# Altium footprint library DZ_LIB.PcbLib: 61 footprints (part 2 of 4)
Each footprint in its own frame and in the unit in brackets; x right, y up, seen from the top. Pads: shape width x height; smd on the part's side, far side on the other; paste and mask are expansions set on the pad; w line width, h text height; cw(c..) or ccw(c..) is an arc to the next point about the centre after c.
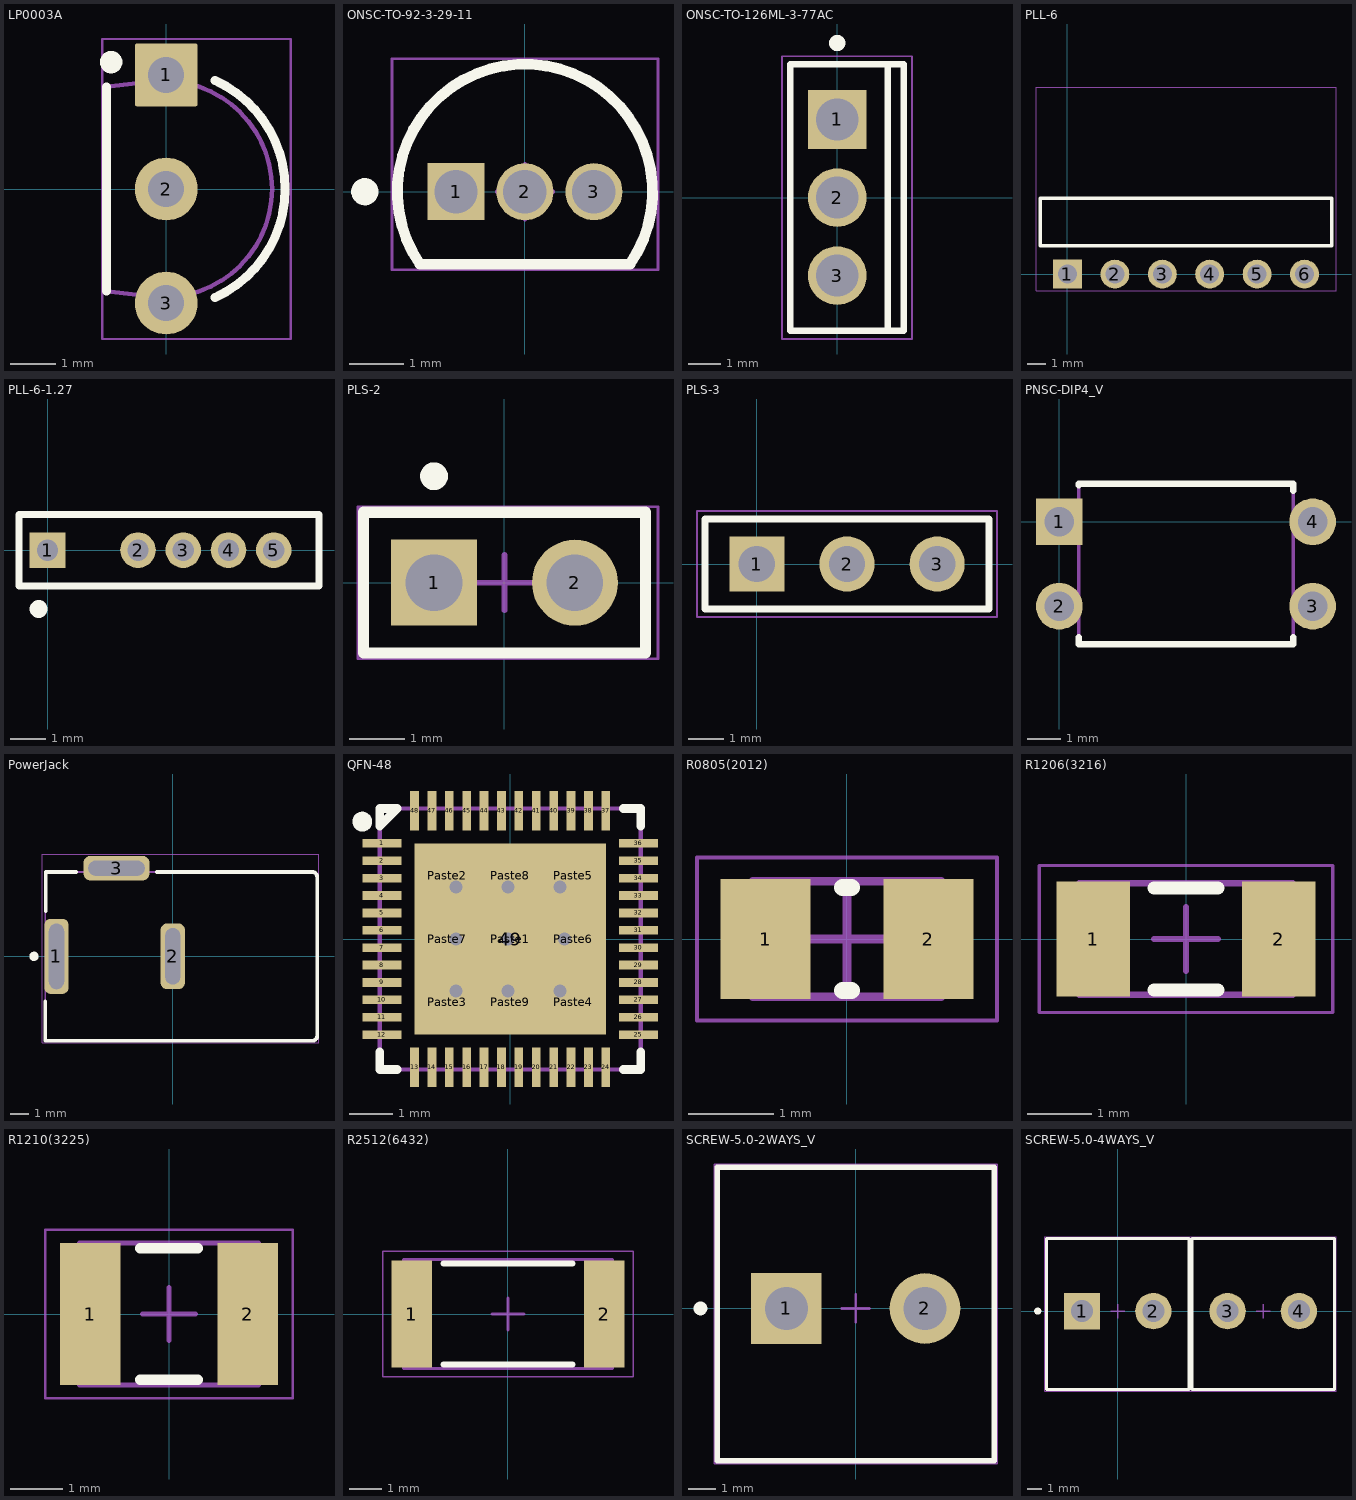
[diagram p1: the footprints below, top view; thin cyan lines are the x and y axes]

## LP0003A [mm] "TO, Flat Index; 3 In-Line, Formed Axial Leads; Body Dia. 4.8mm; Leads 0.56 x 0.41 mm (max)"
height 9.33
pads (3):
  rrect7% 1.4x1.4 hole 0.8: 1(0,2.54)
  round 1.4 hole 0.8: 2(0,0) 3(0,-2.54)
Top Overlay:
  circle w0.25: c-1.225,2.825 r0.125
  lines w0.2: -1.325,-2.273 -1.325,2.273 ; 1.092,-2.415 ccw(c0,0) 1.092,2.415
Mechanical 1:
  text ".Designator" at -1.009,-0.429 h0.76
Mechanical 13:
  lines w0.1: 0.195,-2.4 0.195,-2.722 0.195,-2.83 -0.185,-2.83 -0.185,-2.722 -0.185,-2.412 ; 0.195,2.4 0.195,2.722 0.195,2.83 -0.185,2.83 -0.185,2.722 -0.185,2.412 ; -0.185,-2.412 -0.055,-2.412 ccw(c-0.055,0) -0.055,2.412 -0.185,2.412 ; -0.185,-2.412 -1.325,-2.273 -1.325,2.273 -0.185,2.412
Mechanical 15:
  lines w0.05: -1.425,-3.34 2.775,-3.34 2.775,3.34 -1.425,3.34 -1.425,-3.34
  lines w0.1: -0.5,0 0.5,0 ; 0,-0.5 0,0.5
3D body "LP0003B.stp": height 9.01, standoff -8.51, extent -1.333,-2.83 2.349,2.83

## ONSC-TO-92-3-29-11 [mm] "TO, 3-Leads, Body Dia 4.7mm, Pitch 1.27mm"
height 7.87
pads (3):
  rect 1.05x1.05 hole 0.8: 1(-1.27,0)
  round 1.05 hole 0.8: 2(0,0) 3(1.27,0)
Top Overlay:
  circle w0.25: c-2.95,0 r0.125
  lines w0.2: -1.934,-1.335 cw(c0,0) 1.934,-1.335 -1.934,-1.335
Mechanical 13:
  lines w0.1: -1.934,-1.335 cw(c0,0) 1.934,-1.335 -1.934,-1.335
Mechanical 15:
  lines w0.05: -2.45,-1.435 2.45,-1.435 2.45,2.45 -2.45,2.45 -2.45,-1.435
  lines w0.1: -0.5,0 0.5,0 ; 0,-0.5 0,0.5
3D body: height 7.87, standoff 2.54, extent -2.349,-1.334 2.357,2.359

## ONSC-TO-126ML-3-77AC [mm] "FM, 3-Leads, Body 8.2x3.5mm, Pitch 2.4mm"
height 12.5
pads (3):
  rect 1.8x1.8 hole 1.3: 1(0,2.4)
  round 1.8 hole 1.3: 2(0,0) 3(0,-2.4)
Top Overlay:
  circle w0.25: c0,4.75 r0.125
  lines w0.2: 1.55,-4.1 1.55,4.1 ; -1.45,-4.1 -1.45,4.1 2.05,4.1 2.05,-4.1 -1.45,-4.1
Mechanical 13:
  lines w0.1: 2.05,-4.1 2.05,4.1 ; 2.05,-4.1 -1.45,-4.1 -1.45,4.1 2.05,4.1 ; 2.05,-4.1 2.05,4.1
Mechanical 15:
  lines w0.05: -1.7,-4.35 2.3,-4.35 2.3,4.35 -1.7,4.35 -1.7,-4.35
  lines w0.1: -0.5,0 0.5,0 ; 0,-0.5 0,0.5
3D body: height 13.1, standoff 13.1, extent 2.05,-4 2.05,4
3D body: height 12.5, standoff 1.2, extent -1.45,-4.1 2.05,4.1
3D body: height 0, standoff -1.6, extent -0.35,-2.8 0.35,-2
3D body: height 1.2, standoff 0, extent -0.35,-3.2 0.35,-1.6
3D body: height 0, standoff -1.6, extent -0.35,-0.4 0.35,0.4
3D body: height 1.2, standoff 0, extent -0.35,-0.8 0.35,0.8
3D body: height 0, standoff -1.6, extent -0.35,2 0.35,2.8
3D body: height 1.2, standoff 0, extent -0.35,1.6 0.35,3.2

## PLL-6 [mm] ".025 SQ Post Terminal Strip Assembly, 1x6 Pins, Right Angle, 2.54mm Pitch, Male"
height 3.02
pads (6):
  rect 1.55x1.55 hole 1.02: 1(0,0)
  round 1.55 hole 1.02: 2(2.54,0) 3(5.08,0) 4(7.62,0) 5(10.16,0) 6(12.7,0)
Top Overlay:
  lines w0.2: -1.46,1.52 -1.46,4.06 14.16,4.06 14.16,1.52 -1.46,1.52
Mechanical 13:
  lines w0.1: -1.46,1.52 -1.46,4.06 14.16,4.06 14.16,1.52 -1.46,1.52
Mechanical 15:
  lines w0.05: -1.685,-0.9 -1.685,10.025 14.385,10.025 14.385,-0.9 -1.685,-0.9
3D body "TSW-106-08-X-S-RA.step": height 3.05, standoff -2.29, extent -1.27,-0.323 13.97,9.9

## PLL-6-1.27 [mm] "Male Header, Pitch 1.27mm, 1x6"
height 4.3
pads (5):
  rect 1x1 hole 0.6: 1(0,0)
  round 1 hole 0.6: 2(2.54,0) 3(3.81,0) 4(5.08,0) 5(6.35,0)
Top Overlay:
  circle w0.25: c-0.252,-1.65 r0.125
  lines w0.2: -0.8,-1 -0.8,1 7.62,1 7.62,-1 -0.8,-1

## PLS-2 [mm] "Header, 2-Leads, Body 5.08x2.54mm, Pitch 2.54mm"
height 8.38
pads (2):
  rect 1.55x1.55 hole 1.02: 1(-1.27,0)
  round 1.55 hole 1.02: 2(1.27,0)
Top Overlay:
  circle w0.25: c-1.27,1.92 r0.125
  lines w0.2: -2.54,-1.27 2.54,-1.27 2.54,1.27 -2.54,1.27 -2.54,-1.27
Mechanical 13:
  lines w0.1: -2.54,-1.27 2.54,-1.27 2.54,1.27 -2.54,1.27 -2.54,-1.27
Mechanical 15:
  lines w0.05: -2.64,-1.37 -2.64,1.37 2.767,1.37 2.767,-1.37 -2.64,-1.37
  lines w0.1: -0.5,0 0.5,0 ; 0,-0.5 0,0.5
3D body "TSW-102-07-S-S.stp": height 8.38, standoff -2.54, extent -2.54,-1.27 2.667,1.27

## PLS-3 [mm] ".025 SQ Post Terminal Strip Assembly, 1x3 Pins, Vertical, 2.54mm Pitch, Male"
height 8.58
pads (3):
  rect 1.55x1.55 hole 1.02: 1(0,0)
  round 1.55 hole 1.02: 2(2.54,0) 3(5.08,0)
Top Overlay:
  lines w0.2: -1.46,-1.27 6.54,-1.27 6.54,1.27 -1.46,1.27 -1.46,-1.27
Mechanical 13:
  lines w0.1: -1.46,-1.27 6.54,-1.27 6.54,1.27 -1.46,1.27 -1.46,-1.27
Mechanical 15:
  lines w0.05: -1.685,-1.495 6.765,-1.495 6.765,1.495 -1.685,1.495 -1.685,-1.495
3D body "TSW-103-07-X-S.step": height 8.38, standoff -2.54, extent -1.27,-1.27 6.35,1.27

## PNSC-DIP4_V [mm] "DIP, 4-Leads, Body 6.45x4.83mm, Pitch2.54 mm"
height 3.4
pads (4):
  rect 1.4x1.4 hole 0.9 mask+0.102: 1(0,0)
  round 1.4 hole 0.9 mask+0.102: 2(0,-2.54) 3(7.62,-2.54) 4(7.62,0)
Top Overlay:
  lines w0.2: 0.585,-3.472 0.585,-3.685 7.035,-3.685 7.035,-3.472 ; 0.585,1.1 0.585,1.145 7.035,1.145 7.035,0.932
Mechanical 13:
  lines w0.1: 0.585,-3.685 0.585,1.145 7.035,1.145 7.035,-3.685 0.585,-3.685
3D body: height 3.4, standoff 0.2, extent 0.585,-3.685 7.035,1.145

## PowerJack [mm] "Power Jack, 3-Leads, Body 14.5x9mm"
height 11.1
pads (3):
  rrect50% 1.3x4 hole 0.8 slot 3.5 at 90 deg: 1(-6.2,0)
  rrect50% 1.3x3.5 hole 0.8 slot 3 at 90 deg: 2(0,0)
  rrect50% 3.5x1.3 hole 0.8 slot 3 at 0 deg: 3(-3,4.7)
Top Overlay:
  circle w0.25: c-7.4,0 r0.125
  lines w0.2: -6.8,-4.5 -6.8,-2.4 ; -6.78,-4.5 7.45,-4.5 ccw(c7.45,-4.25) 7.7,-4.25 7.7,4.25 ccw(c7.45,4.25) 7.45,4.5 -0.85,4.5 ; -6.78,2.4 -6.78,4.5 -5.15,4.5
Mechanical 13:
  lines w0.1: -6.8,-4.5 7.45,-4.5 ccw(c7.45,-4.25) 7.7,-4.25 7.7,4.25 ccw(c7.45,4.25) 7.45,4.5 -6.8,4.5 -6.8,-4.5
Mechanical 15:
  lines w0.05: -6.95,-4.6 -6.95,5.45 7.8,5.45 7.8,-4.6 -6.95,-4.6
  lines w0.1: -0.5,0 0.5,0 ; 0,-0.5 0,0.5
3D body "KLDX-0202-A_rD2.STEP": height 10.8, standoff -4.1, extent -6.8,-4.5 7.7,4.9

## QFN-48 [mm] "48 Pin QFN"
pads (58):
  rect 0.9x0.2 smd mask+0.05: 1(-2.95,2.2) 2(-2.95,1.8) 3(-2.95,1.4) 4(-2.95,1) 5(-2.95,0.6) 6(-2.95,0.2) 7(-2.95,-0.2) 8(-2.95,-0.6) 9(-2.95,-1) 10(-2.95,-1.4) 11(-2.95,-1.8) 12(-2.95,-2.2) 25(2.95,-2.2) 26(2.95,-1.8) 27(2.95,-1.4) 28(2.95,-1) 29(2.95,-0.6) 30(2.95,-0.2) 31(2.95,0.2) 32(2.95,0.6) 33(2.95,1) 34(2.95,1.4) 35(2.95,1.8) 36(2.95,2.2)
  rect 0.2x0.9 smd mask+0.05: 13(-2.2,-2.95) 14(-1.8,-2.95) 15(-1.4,-2.95) 16(-1,-2.95) 17(-0.6,-2.95) 18(-0.2,-2.95) 19(0.2,-2.95) 20(0.6,-2.95) 21(1,-2.95) 22(1.4,-2.95) 23(1.8,-2.95) 24(2.2,-2.95) 37(2.2,2.95) 38(1.8,2.95) 39(1.4,2.95) 40(1,2.95) 41(0.6,2.95) 42(0.2,2.95) 43(-0.2,2.95) 44(-0.6,2.95) 45(-1,2.95) 46(-1.4,2.95) 47(-1.8,2.95) 48(-2.2,2.95)
  rect 4.4x4.4 smd paste-4.4 mask+0.05: 49(0,0)
  rect 1.3x1.3 on Top Paste mask+0.05: Paste1(0,0) Paste2(-1.45,1.45) Paste3(-1.45,-1.45) Paste4(1.45,-1.45) Paste5(1.45,1.45) Paste6(1.45,0) Paste7(-1.45,0) Paste8(0,1.45) Paste9(0,-1.45)
via -0.05,1.2 diameter 0.6 hole 0.3
via -0.05,0 diameter 0.6 hole 0.3
via 1.25,0 diameter 0.6 hole 0.3
via -1.25,0 diameter 0.6 hole 0.3
via -1.25,-1.2 diameter 0.6 hole 0.3
via -0.05,-1.2 diameter 0.6 hole 0.3
via 1.15,-1.2 diameter 0.6 hole 0.3
via -1.25,1.2 diameter 0.6 hole 0.3
via 1.15,1.2 diameter 0.6 hole 0.3
Top Overlay:
  circle w0.254: c-3.4,2.7 r0.1
  lines w0.2: -3,-2.6 -3,-3 -2.6,-3 ; 2.6,-3 3,-3 3,-2.6 ; 2.6,3 3,3 3,2.6 ; -3,2.6 -3,3 -2.6,3 -3,2.6
Mechanical 13:
  lines w0.1: -3,-3 -3,3 3,3 3,-3 -3,-3
3D body: height 1, standoff 0, extent -3,-3 3,3

## R0805(2012) [mm] "Chip Resistor, Body 2.0x1.3mm, IPC Medium Density"
height 0.7
pads (2):
  rect 1.05x1.4 smd: 1(-0.95,0) 2(0.95,0)
Top Overlay:
  lines w0.2: -0.05,-0.6 0.05,-0.6 ; -0.05,0.6 0.05,0.6
Mechanical 13:
  lines w0.1: -1.1,-0.675 1.1,-0.675 1.1,0.675 -1.1,0.675 -1.1,-0.675
Mechanical 15:
  lines w0.05: -1.75,-0.95 1.75,-0.95 1.75,0.95 -1.75,0.95 -1.75,-0.95
  lines w0.1: -0.5,0 0.5,0 ; 0,-0.5 0,0.5
3D body: height 0.7, standoff 0, extent -1.1,-0.675 -0.68,0.675
3D body: height 0.7, standoff 0, extent -0.68,-0.675 0.68,0.675
3D body: height 0.7, standoff 0, extent 0.68,-0.675 1.1,0.675

## R1206(3216) [mm] "Chip Resistor, Body 3.2x1.6mm, IPC Medium Density"
height 0.75
pads (2):
  rect 1.15x1.8 smd: 1(-1.45,0) 2(1.45,0)
Top Overlay:
  lines w0.2: -0.5,-0.8 0.5,-0.8 ; -0.5,0.8 0.5,0.8
Mechanical 13:
  lines w0.1: -1.675,-0.875 1.675,-0.875 1.675,0.875 -1.675,0.875 -1.675,-0.875
Mechanical 15:
  lines w0.05: -2.3,-1.15 2.3,-1.15 2.3,1.15 -2.3,1.15 -2.3,-1.15
  lines w0.1: -0.5,0 0.5,0 ; 0,-0.5 0,0.5
3D body: height 0.75, standoff 0, extent 1.181,-0.874 1.675,0.875
3D body: height 0.75, standoff 0, extent -1.18,-0.874 1.181,0.875
3D body: height 0.75, standoff 0, extent -1.674,-0.874 -1.18,0.875

## R1210(3225) [mm] "Chip Resistor, Body 3.2x2.5mm, IPC Medium Density"
height 0.71
pads (2):
  rect 1.15x2.7 smd: 1(-1.5,0) 2(1.5,0)
Top Overlay:
  lines w0.2: -0.55,-1.25 0.55,-1.25 ; -0.55,1.25 0.55,1.25
Mechanical 13:
  lines w0.1: -1.7,-1.35 -1.7,1.35 1.7,1.35 1.7,-1.35 -1.7,-1.35
Mechanical 15:
  lines w0.05: -2.35,-1.6 -2.35,1.6 2.35,1.6 2.35,-1.6 -2.35,-1.6
  lines w0.1: -0.5,0 0.5,0 ; 0,-0.5 0,0.5
3D body: height 0.71, standoff 0, extent -1.182,-1.35 1.182,1.35
3D body: height 0.71, standoff 0, extent -1.698,-1.349 -1.178,1.351
3D body: height 0.71, standoff 0, extent 1.179,-1.351 1.698,1.349

## R2512(6432) [mm] "Chip Resistor, Body 6.4x3.2mm, IPC Medium Density"
height 0.75
pads (2):
  rect 1.25x3.35 smd: 1(-3,0) 2(3,0)
Top Overlay:
  lines w0.2: -2,-1.575 2,-1.575 ; -2,1.575 2,1.575
Mechanical 13:
  lines w0.1: -3.25,-1.7 3.25,-1.7 3.25,1.7 -3.25,1.7 -3.25,-1.7
Mechanical 15:
  lines w0.05: -3.9,-1.95 3.9,-1.95 3.9,1.95 -3.9,1.95 -3.9,-1.95
  lines w0.1: -0.5,0 0.5,0 ; 0,-0.5 0,0.5
3D body: height 0.75, standoff 0, extent -3.25,-1.7 -2.63,1.7
3D body: height 0.75, standoff 0, extent -2.63,-1.7 2.63,1.7
3D body: height 0.75, standoff 0, extent 2.63,-1.7 3.25,1.7

## SCREW-5.0-2WAYS_V [mm] "Socket, Screw Terminal Block, 2-Leads, Pitch 5mm, 90 Degree Angle, Through-Hole"
height 18.2
pads (2):
  rect 2.55x2.55 hole 1.55: 1(-2.5,0)
  round 2.55 hole 1.55: 2(2.5,0)
Top Overlay:
  circle w0.25: c-5.6,0 r0.125
  lines w0.2: -5,-5.5 -5,5.1 5,5.1 5,-5.5 -5,-5.5
Mechanical 13:
  lines w0.1: -5,-5.5 5,-5.5 5,5.1 -5,5.1 -5,-5.5
Mechanical 15:
  lines w0.05: -5.1,-5.6 -5.1,5.2 5.1,5.2 5.1,-5.6 -5.1,-5.6
  lines w0.1: -0.5,0 0.5,0 ; 0,-0.5 0,0.5
3D body: height 17.7, standoff 17.2, extent 0.754,0.246 2.254,1.746
3D body: height 17.7, standoff 17.2, extent 2.746,0.246 4.246,1.746
3D body: height 17.7, standoff 17.2, extent 0.754,-1.746 2.254,-0.246
3D body: height 17.7, standoff 17.2, extent 2.746,-1.746 4.246,-0.246
3D body: height 17.7, standoff 17.2, extent -4.246,0.246 -2.746,1.746
3D body: height 17.7, standoff 17.2, extent -2.254,0.246 -0.754,1.746
3D body: height 17.7, standoff 17.2, extent -4.246,-1.746 -2.746,-0.246
3D body: height 17.7, standoff 17.2, extent -2.254,-1.746 -0.754,-0.246
3D body: height 18.2, standoff 17.2, extent -4.981,0.001 5.018,2.5
3D body: height 18.2, standoff 17.2, extent -5,-2.5 4.999,-0.001
3D body: height 18.2, standoff 12, extent -5,-5.5 5,3.05
3D body: height 0.01, standoff -5.07, extent 2,-0.4 3,0.4
3D body: height 0.01, standoff -5.07, extent -3,-0.4 -2,0.4
3D body: height 12, standoff 9, extent -5,-5.5 5,3.05
3D body "2.step": height 9.01, standoff 0.01, extent -5,-5.5 4.999,5.1

## SCREW-5.0-4WAYS_V [mm] "Socket, Screw Terminal Block, 2-Leads, Pitch 5mm, 90 Degree Angle, Through-Hole"
height 18.2
pads (4):
  rect 2.55x2.55 hole 1.55: 1(-2.5,0)
  round 2.55 hole 1.55: 2(2.5,0) 3(7.7,0) 4(12.7,0)
Top Overlay:
  circle w0.25: c-5.6,0 r0.125
  lines w0.2: -5,-5.5 -5,5.1 5,5.1 5,-5.5 -5,-5.5 ; 5.2,-5.5 15.2,-5.5 15.2,5.1 5.2,5.1 5.2,-5.5
Mechanical 13:
  lines w0.1: -5,-5.5 5,-5.5 5,5.1 -5,5.1 -5,-5.5 ; 5.2,-5.5 5.2,5.1 15.2,5.1 15.2,-5.5 5.2,-5.5
Mechanical 15:
  lines w0.05: 5.1,-5.6 5.1,5.2 ; 5.1,-5.6 -5.1,-5.6 -5.1,5.2 5.1,5.2 ; 5.1,-5.6 15.3,-5.6 15.3,5.2 5.1,5.2 ; 5.1,-5.6 5.1,5.2
  lines w0.1: -0.5,0 0.5,0 ; 0,-0.5 0,0.5 ; 9.7,0 10.7,0 ; 10.2,-0.5 10.2,0.5
3D body: height 17.7, standoff 17.2, extent 0.754,0.246 2.254,1.746
3D body: height 17.7, standoff 17.2, extent 2.746,0.246 4.246,1.746
3D body: height 17.7, standoff 17.2, extent 0.754,-1.746 2.254,-0.246
3D body: height 17.7, standoff 17.2, extent 2.746,-1.746 4.246,-0.246
3D body: height 17.7, standoff 17.2, extent -4.246,0.246 -2.746,1.746
3D body: height 17.7, standoff 17.2, extent -2.254,0.246 -0.754,1.746
3D body: height 17.7, standoff 17.2, extent -4.246,-1.746 -2.746,-0.246
3D body: height 17.7, standoff 17.2, extent -2.254,-1.746 -0.754,-0.246
3D body: height 18.2, standoff 17.2, extent -4.981,0.001 5.018,2.5
3D body: height 18.2, standoff 17.2, extent -5,-2.5 4.999,-0.001
3D body: height 18.2, standoff 12, extent -5,-5.5 5,3.05
3D body: height 0.01, standoff -5.07, extent 2,-0.4 3,0.4
3D body: height 0.01, standoff -5.07, extent -3,-0.4 -2,0.4
3D body: height 12, standoff 9, extent -5,-5.5 5,3.05
3D body "2.step": height 9.01, standoff 0.01, extent -5,-5.5 4.999,5.1
3D body "2.step": height 9.01, standoff 0.01, extent 5.2,-5.5 15.199,5.1
3D body: height 12, standoff 9, extent 5.2,-5.5 15.2,3.05
3D body: height 0.01, standoff -5.07, extent 7.2,-0.4 8.2,0.4
3D body: height 0.01, standoff -5.07, extent 12.2,-0.4 13.2,0.4
3D body: height 18.2, standoff 12, extent 5.2,-5.5 15.2,3.05
3D body: height 18.2, standoff 17.2, extent 5.2,-2.5 15.199,-0.001
3D body: height 18.2, standoff 17.2, extent 5.219,0.001 15.218,2.5
3D body: height 17.7, standoff 17.2, extent 7.946,-1.746 9.446,-0.246
3D body: height 17.7, standoff 17.2, extent 5.954,-1.746 7.454,-0.246
3D body: height 17.7, standoff 17.2, extent 7.946,0.246 9.446,1.746
3D body: height 17.7, standoff 17.2, extent 5.954,0.246 7.454,1.746
3D body: height 17.7, standoff 17.2, extent 12.946,-1.746 14.446,-0.246
3D body: height 17.7, standoff 17.2, extent 10.954,-1.746 12.454,-0.246
3D body: height 17.7, standoff 17.2, extent 12.946,0.246 14.446,1.746
3D body: height 17.7, standoff 17.2, extent 10.954,0.246 12.454,1.746